# Altium schematic symbol library utils.SchLib: 5 symbols
Pins are listed as number, name and electrical type; pins without a type are passive.

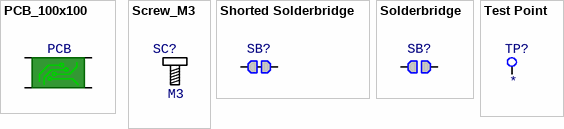
[diagram p0: symbols PCB_100x100 to Test Point]

## PCB_100x100
designator PCB  (value not drawn)
PCB
footprint PCB_100x100
pins: 1, 2, 3, 4

## Screw_M3
designator SC?, comment M3
Screw
footprint SCRREW_M3

## Shorted Solderbridge
designator SB?, comment Solderbridge  (value not drawn)  (no BOM)
Shorted Solderbridge; Value: Solderbridge
footprint Solderbridge_Shorted
pins: 1, 2

## Solderbridge
designator SB?  (value not drawn)  (no BOM)
Value: Solderbridge
footprint BRIDGE1
pins: 1 (oc), 2

## Test Point
designator TP?
Test
footprint TE TP 0805
footprint TP Circle
pins: 1 TP